# EAGLE library part PIC32MZ2064DAG176 (library PonLib)
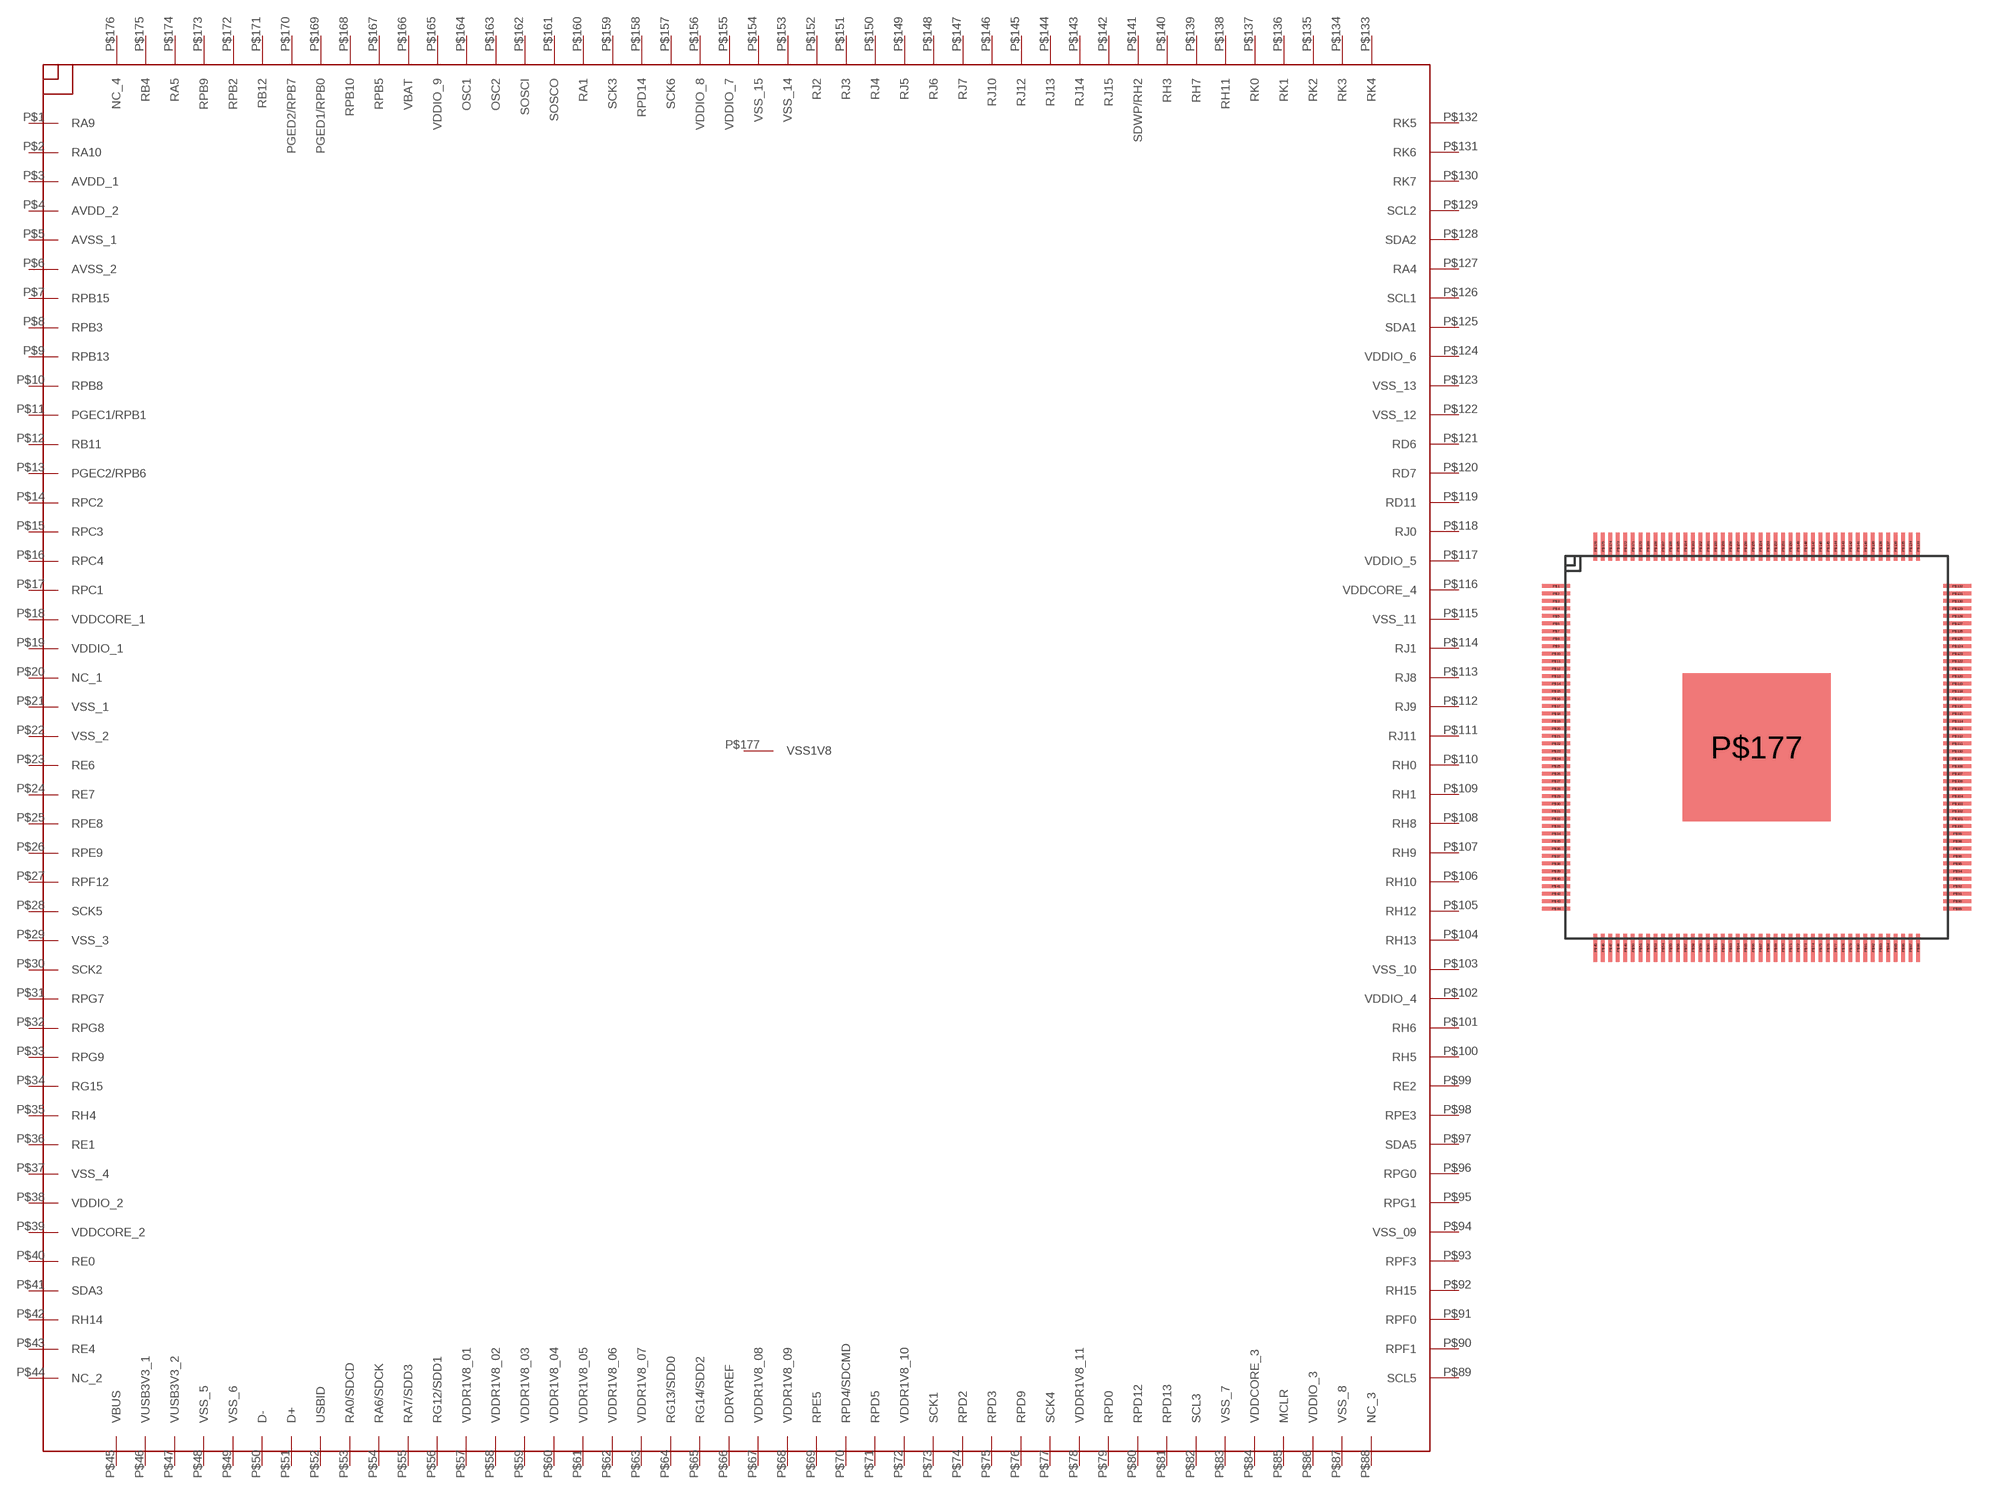
[diagram p30: symbol with the pads of LQFP-176; footprint LQFP-176]

Designator prefix -

## PIC32MZ2064DAG176  [LQFP-176]
P$1  RA9
P$2  RA10
P$3  AVDD_1
P$4  AVDD_2
P$5  AVSS_1
P$6  AVSS_2
P$7  RPB15
P$8  RPB3
P$9  RPB13
P$10  RPB8
P$11  PGEC1/RPB1
P$12  RB11
P$13  PGEC2/RPB6
P$14  RPC2
P$15  RPC3
P$16  RPC4
P$17  RPC1
P$18  VDDCORE_1
P$19  VDDIO_1
P$20  NC_1
P$21  VSS_1
P$22  VSS_2
P$23  RE6
P$24  RE7
P$25  RPE8
P$26  RPE9
P$27  RPF12
P$28  SCK5
P$29  VSS_3
P$30  SCK2
P$31  RPG7
P$32  RPG8
P$33  RPG9
P$34  RG15
P$35  RH4
P$36  RE1
P$37  VSS_4
P$38  VDDIO_2
P$39  VDDCORE_2
P$40  RE0
P$41  SDA3
P$42  RH14
P$43  RE4
P$44  NC_2
P$45  VBUS
P$46  VUSB3V3_1
P$47  VUSB3V3_2
P$48  VSS_5
P$49  VSS_6
P$50  D-
P$51  D+
P$52  USBID
P$53  RA0/SDCD
P$54  RA6/SDCK
P$55  RA7/SDD3
P$56  RG12/SDD1
P$57  VDDR1V8_01
P$58  VDDR1V8_02
P$59  VDDR1V8_03
P$60  VDDR1V8_04
P$61  VDDR1V8_05
P$62  VDDR1V8_06
P$63  VDDR1V8_07
P$64  RG13/SDD0
P$65  RG14/SDD2
P$66  DDRVREF
P$67  VDDR1V8_08
P$68  VDDR1V8_09
P$69  RPE5
P$70  RPD4/SDCMD
P$71  RPD5
P$72  VDDR1V8_10
P$73  SCK1
P$74  RPD2
P$75  RPD3
P$76  RPD9
P$77  SCK4
P$78  VDDR1V8_11
P$79  RPD0
P$80  RPD12
P$81  RPD13
P$82  SCL3
P$83  VSS_7
P$84  VDDCORE_3
P$85  MCLR
P$86  VDDIO_3
P$87  VSS_8
P$88  NC_3
P$89  SCL5
P$90  RPF1
P$91  RPF0
P$92  RH15
P$93  RPF3
P$94  VSS_09
P$95  RPG1
P$96  RPG0
P$97  SDA5
P$98  RPE3
P$99  RE2
P$100  RH5
P$101  RH6
P$102  VDDIO_4
P$103  VSS_10
P$104  RH13
P$105  RH12
P$106  RH10
P$107  RH9
P$108  RH8
P$109  RH1
P$110  RH0
P$111  RJ11
P$112  RJ9
P$113  RJ8
P$114  RJ1
P$115  VSS_11
P$116  VDDCORE_4
P$117  VDDIO_5
P$118  RJ0
P$119  RD11
P$120  RD7
P$121  RD6
P$122  VSS_12
P$123  VSS_13
P$124  VDDIO_6
P$125  SDA1
P$126  SCL1
P$127  RA4
P$128  SDA2
P$129  SCL2
P$130  RK7
P$131  RK6
P$132  RK5
P$133  RK4
P$134  RK3
P$135  RK2
P$136  RK1
P$137  RK0
P$138  RH11
P$139  RH7
P$140  RH3
P$141  SDWP/RH2
P$142  RJ15
P$143  RJ14
P$144  RJ13
P$145  RJ12
P$146  RJ10
P$147  RJ7
P$148  RJ6
P$149  RJ5
P$150  RJ4
P$151  RJ3
P$152  RJ2
P$153  VSS_14
P$154  VSS_15
P$155  VDDIO_7
P$156  VDDIO_8
P$157  SCK6
P$158  RPD14
P$159  SCK3
P$160  RA1
P$161  SOSCO
P$162  SOSCI
P$163  OSC2
P$164  OSC1
P$165  VDDIO_9
P$166  VBAT
P$167  RPB5
P$168  RPB10
P$169  PGED1/RPB0
P$170  PGED2/RPB7
P$171  RB12
P$172  RPB2
P$173  RPB9
P$174  RA5
P$175  RB4
P$176  NC_4
P$177  VSS1V8

## Footprint LQFP-176 (pad centres in mm)
smd 1.5 x 0.2: P$1 -10.7,8.6; P$2 -10.7,8.2; P$3 -10.7,7.8; P$4 -10.7,7.4; P$5 -10.7,7; P$6 -10.7,6.6; P$7 -10.7,6.2; P$8 -10.7,5.8; P$9 -10.7,5.4; P$10 -10.7,5; P$11 -10.7,4.6; P$12 -10.7,4.2; P$13 -10.7,3.8; P$14 -10.7,3.4; P$15 -10.7,3; P$16 -10.7,2.6; P$17 -10.7,2.2; P$18 -10.7,1.8; P$19 -10.7,1.4; P$20 -10.7,1; P$21 -10.7,0.6; P$22 -10.7,0.2; P$23 -10.7,-0.2; P$24 -10.7,-0.6; P$25 -10.7,-1; P$26 -10.7,-1.4; P$27 -10.7,-1.8; P$28 -10.7,-2.2; P$29 -10.7,-2.6; P$30 -10.7,-3; P$31 -10.7,-3.4; P$32 -10.7,-3.8; P$33 -10.7,-4.2; P$34 -10.7,-4.6; P$35 -10.7,-5; P$36 -10.7,-5.4; P$37 -10.7,-5.8; P$38 -10.7,-6.2; P$39 -10.7,-6.6; P$40 -10.7,-7; P$41 -10.7,-7.4; P$42 -10.7,-7.8; P$43 -10.7,-8.2; P$44 -10.7,-8.6; P$89 10.7,-8.6; P$90 10.7,-8.2; P$91 10.7,-7.8; P$92 10.7,-7.4; P$93 10.7,-7; P$94 10.7,-6.6; P$95 10.7,-6.2; P$96 10.7,-5.8; P$97 10.7,-5.4; P$98 10.7,-5; P$99 10.7,-4.6; P$100 10.7,-4.2; P$101 10.7,-3.8; P$102 10.7,-3.4; P$103 10.7,-3; P$104 10.7,-2.6; P$105 10.7,-2.2; P$106 10.7,-1.8; P$107 10.7,-1.4; P$108 10.7,-1; P$109 10.7,-0.6; P$110 10.7,-0.2; P$111 10.7,0.2; P$112 10.7,0.6; P$113 10.7,1; P$114 10.7,1.4; P$115 10.7,1.8; P$116 10.7,2.2; P$117 10.7,2.6; P$118 10.7,3; P$119 10.7,3.4; P$120 10.7,3.8; P$121 10.7,4.2; P$122 10.7,4.6; P$123 10.7,5; P$124 10.7,5.4; P$125 10.7,5.8; P$126 10.7,6.2; P$127 10.7,6.6; P$128 10.7,7; P$129 10.7,7.4; P$130 10.7,7.8; P$131 10.7,8.2; P$132 10.7,8.6
smd 0.2 x 1.5: P$45 -8.6,-10.7; P$46 -8.2,-10.7; P$47 -7.8,-10.7; P$48 -7.4,-10.7; P$49 -7,-10.7; P$50 -6.6,-10.7; P$51 -6.2,-10.7; P$52 -5.8,-10.7; P$53 -5.4,-10.7; P$54 -5,-10.7; P$55 -4.6,-10.7; P$56 -4.2,-10.7; P$57 -3.8,-10.7; P$58 -3.4,-10.7; P$59 -3,-10.7; P$60 -2.6,-10.7; P$61 -2.2,-10.7; P$62 -1.8,-10.7; P$63 -1.4,-10.7; P$64 -1,-10.7; P$65 -0.6,-10.7; P$66 -0.2,-10.7; P$67 0.2,-10.7; P$68 0.6,-10.7; P$69 1,-10.7; P$70 1.4,-10.7; P$71 1.8,-10.7; P$72 2.2,-10.7; P$73 2.6,-10.7; P$74 3,-10.7; P$75 3.4,-10.7; P$76 3.8,-10.7; P$77 4.2,-10.7; P$78 4.6,-10.7; P$79 5,-10.7; P$80 5.4,-10.7; P$81 5.8,-10.7; P$82 6.2,-10.7; P$83 6.6,-10.7; P$84 7,-10.7; P$85 7.4,-10.7; P$86 7.8,-10.7; P$87 8.2,-10.7; P$88 8.6,-10.7; P$133 8.6,10.7; P$134 8.2,10.7; P$135 7.8,10.7; P$136 7.4,10.7; P$137 7,10.7; P$138 6.6,10.7; P$139 6.2,10.7; P$140 5.8,10.7; P$141 5.4,10.7; P$142 5,10.7; P$143 4.6,10.7; P$144 4.2,10.7; P$145 3.8,10.7; P$146 3.4,10.7; P$147 3,10.7; P$148 2.6,10.7; P$149 2.2,10.7; P$150 1.8,10.7; P$151 1.4,10.7; P$152 1,10.7; P$153 0.6,10.7; P$154 0.2,10.7; P$155 -0.2,10.7; P$156 -0.6,10.7; P$157 -1,10.7; P$158 -1.4,10.7; P$159 -1.8,10.7; P$160 -2.2,10.7; P$161 -2.6,10.7; P$162 -3,10.7; P$163 -3.4,10.7; P$164 -3.8,10.7; P$165 -4.2,10.7; P$166 -4.6,10.7; P$167 -5,10.7; P$168 -5.4,10.7; P$169 -5.8,10.7; P$170 -6.2,10.7; P$171 -6.6,10.7; P$172 -7,10.7; P$173 -7.4,10.7; P$174 -7.8,10.7; P$175 -8.2,10.7; P$176 -8.6,10.7
smd 7.9 x 7.9: P$177 0,0